# EAGLE library part 6PIN (library Connectors)
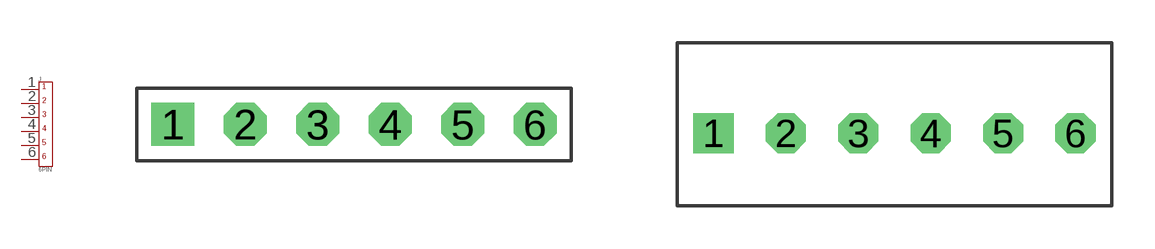
[diagram p0: symbol with the pads of 6PIN_HEADER_PITCH2.54MM_TH; footprints 6PIN_HEADER_PITCH2.54MM_TH, 6PIN_HEADER_VERT_PITCH2.54MM_TH]

Designator prefix J

## 6PIN_HEADER_PITCH2.54MM_TH  [6PIN_HEADER_PITCH2.54MM_TH]
1  1  pas
2  2  pas
3  3  pas
4  4  pas
5  5  pas
6  6  pas

## 6PIN_HEADER_VERT_PITCH2.54MM_TH  [6PIN_HEADER_VERT_PITCH2.54MM_TH]
Pads as for 6PIN_HEADER_PITCH2.54MM_TH

## 6PIN_HEADER_PITCH2.54MM_SMD  [6PIN_HEADER_PITCH2.54MM_SMD]
Pads as for 6PIN_HEADER_PITCH2.54MM_TH

## 6PIN_HFW6R  [HFW6R]
Pads as for 6PIN_HEADER_PITCH2.54MM_TH

## Footprint 6PIN_HEADER_PITCH2.54MM_TH (pad centres in mm)
drill 1 square: 1 -6.35,0
drill 1 octagon: 2 -3.81,0; 3 -1.27,0; 4 1.27,0; 5 3.81,0; 6 6.35,0

## Footprint 6PIN_HEADER_VERT_PITCH2.54MM_TH (pad centres in mm)
drill 0.9 square: 1 -6.35,0
drill 0.9 octagon: 2 -3.81,0; 3 -1.27,0; 4 1.27,0; 5 3.81,0; 6 6.35,0

## Footprint 6PIN_HEADER_PITCH2.54MM_SMD (pad centres in mm)
smd 1 x 4.565: 1 -6.35,2.5; 2 -3.81,-2.5; 3 -1.27,2.5; 4 1.27,-2.5; 5 3.81,2.5; 6 6.35,-2.5

## Footprint HFW6R (pad centres in mm)
smd 0.6 x 2: 1 -2.5,0; 2 -1.5,0; 3 -0.5,0; 4 0.5,0; 5 1.5,0; 6 2.5,0
smd 0.7 x 4.2: S1 -3.5,-2; S2 3.5,-2